# Altium schematic symbol library IND,1uH,2A,Multilayer,0603.Schlib: 1 symbol
Pins are listed as number, name and electrical type; pins without a type are passive.

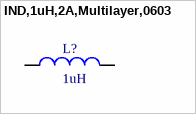
[diagram p0: symbol IND,1uH,2A,Multilayer,0603]

## IND,1uH,2A,Multilayer,0603
designator L?, comment 1uH
1 µH Shielded - Inductor 2 A 142mOhm Max 0603 (1608 Metric) -
pins: 1, 2